# Altium integrated library LED.IntLib: 69 symbols
Pins are listed as number, name and electrical type; pins without a type are passive.

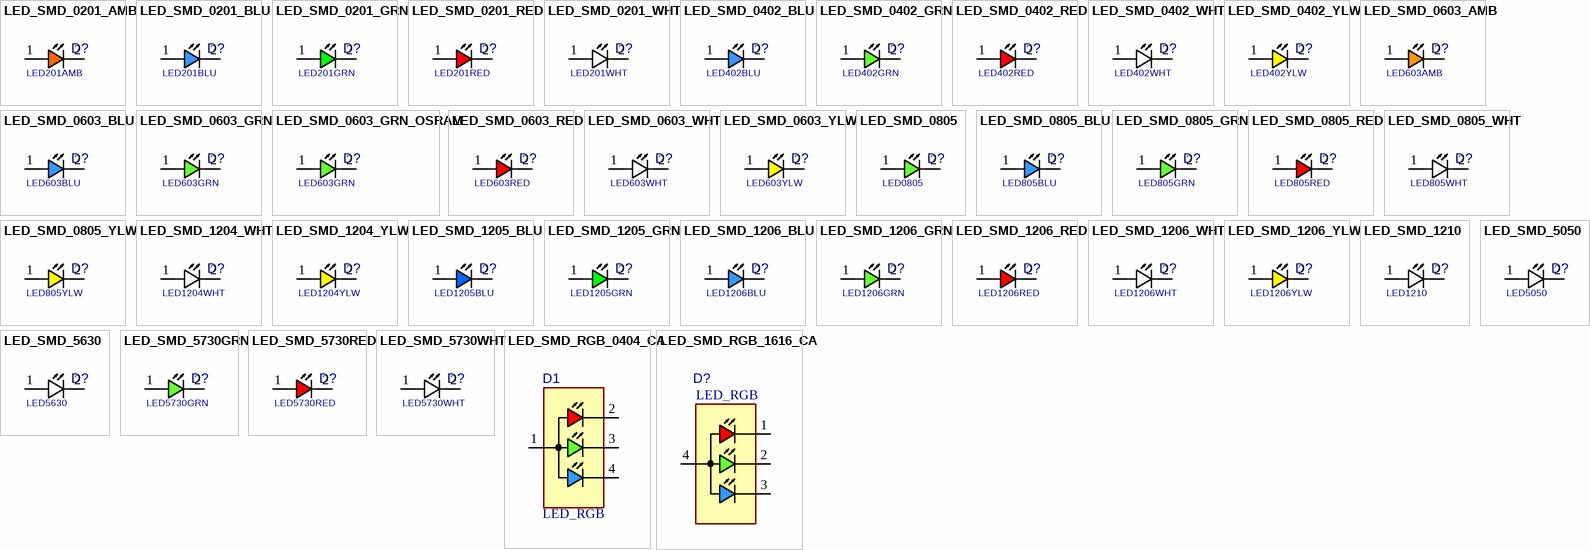
[diagram p0: symbols LED_SMD_0201_AMB to LED_SMD_RGB_1616_CA]

## LED_SMD_0201_AMB
designator D?, comment LED201AMB
LED, SMD, 0201, AMBER; PARAM: 20mA, 605nm, 140° Angle; MANF: Kingbright; DESC: DESCRIPTION; MANF_P#: APG0603SEC-TT; PARAM2: 2V, -40~85°C; ASSEMBLY: ASSEMBLY; PRICE: 0.5$; VALUE: LED201AMB
footprint LED0201AMB (LED SMD 0201, AMBER)
pins: 1 ANODE, 2 CATHODE

## LED_SMD_0201_BLU
designator D?, comment LED201BLU
LED, SMD, 0201, BLUE; PARAM: 5mA, 470nm, 110° Angle; MANF: Lumex; DESC: DESCRIPTION; MANF_P#: SML-LX0201USBC-TR; PARAM2: 2.6V, -40~85°C; ASSEMBLY: ASSEMBLY; PRICE: 0.3$; VALUE: LED201BLU
footprint LED0201BLU (LED SMD 0201, BLUE)
pins: 1 ANODE, 2 CATHODE

## LED_SMD_0201_GRN
designator D?, comment LED201GRN
LED, SMD, 0201, GREEN; PARAM: 20mA, 570nm, 140° Angle; MANF: Kingbright; DESC: DESCRIPTION; MANF_P#: APG0603CGC; PARAM2: 2V, -40~85°C; ASSEMBLY: ASSEMBLY; PRICE: 0.5$; VALUE: LED201GRN
footprint LED0201GRN (LED SMD 0201, GREEN)
pins: 1 ANODE, 2 CATHODE

## LED_SMD_0201_RED
designator D?, comment LED201RED
LED, SMD, 0201, RED; PARAM: 20mA, 625nm, 140° Angle; MANF: Kingbright; DESC: DESCRIPTION; MANF_P#: APG0603SEC-E-TT; PARAM2: 2V, -40~85°C; ASSEMBLY: ASSEMBLY; PRICE: 0.5$; VALUE: LED201RED
footprint LED0201RED (LED SMD 0201, RED)
pins: 1 ANODE, 2 CATHODE

## LED_SMD_0201_WHT
designator D?, comment LED201WHT
LED, SMD, 0201, WHITE; PARAM: 5mA, -nm, 110° Angle; MANF: Lumex; DESC: DESCRIPTION; MANF_P#: SML-LX0201NWD-TR; PARAM2: 2V, -40~85°C; ASSEMBLY: ASSEMBLY; PRICE: 0.4$; VALUE: LED201WHT
footprint LED0201WHT (LED SMD 0201, WHITE)
pins: 1 ANODE, 2 CATHODE

## LED_SMD_0402_BLU
designator D?, comment LED402BLU
LED, SMD, 0402, BLUE; PARAM: 20mA, 470nm, 120° Angle; MANF: Wurth Electronics; DESC: DESCRIPTION; MANF_P#: 150040BS73240; PARAM2: 3V; ASSEMBLY: ASSEMBLY; PRICE: 0.3$; VALUE: LED402BLU
footprint LED0402BLU (LED SMD 0402, BLUE)
pins: 1 ANODE, 2 CATHODE

## LED_SMD_0402_GRN
designator D?, comment LED402GRN
LED, SMD, 0402, GREEN; PARAM: 20mA; MANF: Wurth Electronics; DESC: DESCRIPTION; MANF_P#: 150040GS73240, HSMG-C280; PARAM2: 2.2V; ASSEMBLY: ASSEMBLY; PRICE: 0.3$; VALUE: LED402GRN
footprint LED0402GRN (LED SMD 0402, GREEN)
pins: 1 ANODE, 2 CATHODE

## LED_SMD_0402_RED
designator D?, comment LED402RED
LED, SMD, 0402, RED; PARAM: 20mA, 640nm; MANF: Wurth Electronics, VCC; DESC: DESCRIPTION; MANF_P#: 150040RS73240, VAOL-S4RP4; PARAM2: 1.8~2.5V; ASSEMBLY: ASSEMBLY; PRICE: 0.3$; VALUE: LED402RED
footprint LED0402RED (LED SMD 0402, RED)
pins: 1 ANODE, 2 CATHODE

## LED_SMD_0402_WHT
designator D?, comment LED402WHT
LED, SMD, 0402, WHITE; PARAM: 5mA; MANF: OSRAM; DESC: DESCRIPTION; MANF_P#: LW QH8G-Q2OO-3K5L-1; PARAM2: 2.85V; ASSEMBLY: ASSEMBLY; PRICE: PRICE; VALUE: LED402WHT
footprint LED0402WHT (LED SMD 0402, WHITE)
pins: 1 ANODE, 2 CATHODE

## LED_SMD_0402_YLW
designator D?, comment LED402YLW
LED, SMD, 0402, YELLOW; MANF: Wurth Electronics; DESC: DESCRIPTION; MANF_P#: 150040VS73240, 150040YS73240, HSMY-C280, VAOL-S4GT4; PARAM2: 2.2V; ASSEMBLY: ASSEMBLY; PRICE: 0.3$; VALUE: LED402YLW
footprint LED0402YLW (LED SMD 0402, YELLOW)
pins: 1 ANODE, 2 CATHODE

## LED_SMD_0603_AMB
designator D?, comment LED603AMB
LED, SMD, 0603, AMBER, 606nm; PARAM: 30mA; MANF: OSRAM; DESC: DESCRIPTION; MANF_P#: L29K-H2K1-24-Z; PARAM2: 1.8V; ASSEMBLY: ASSEMBLY; PRICE: PRICE; VALUE: LED603AMB
footprint LED0603AMB (LED SMD 0603, AMBER)
pins: 1 ANODE, 2 CATHODE

## LED_SMD_0603_BLU
designator D?, comment LED603BLU
LED, SMD, 0603, BLUE; PARAM: 30mA, 470nm, 120° Angle; DESC: DESCRIPTION; MANF_P#: MANF_PART#; PARAM2: 2.2~3V; MANF: MANF; ASSEMBLY: ASSEMBLY; PRICE: PRICE; VALUE: LED603BLU
footprint LED0603BLU (LED SMD 0603, BLUE)
pins: 1 ANODE, 2 CATHODE

## LED_SMD_0603_GRN
designator D?, comment LED603GRN
LED, SMD, 0603, GREEN; PARAM: 20mA; MANF: Kingbright; DESC: DESCRIPTION; MANF_P#: APT1608SGC; PARAM2: 2.2V; ASSEMBLY: ASSEMBLY; PRICE: 1: 0.14$, 100: 6.8$; VALUE: LED603GRN
footprint LED0603GRN (LED SMD 0603, GREEN)
pins: 1 ANODE, 2 CATHODE

## LED_SMD_0603_GRN_OSRAM
designator D?, comment LED603GRN
LED, SMD, 0603, GREEN; PARAM: 20mA; MANF: OSRAM; DESC: DESCRIPTION; MANF_P#: LG Q396-PS-35; PARAM2: 2.2V; ASSEMBLY: ASSEMBLY; PRICE: 0.36$; VALUE: LED603GRN
footprint LED0603GRN (LED SMD 0603, GREEN)
pins: 1 ANODE, 2 CATHODE

## LED_SMD_0603_RED
designator D?, comment LED603RED
LED, SMD, 0603, RED; PARAM: 30mA, 640nm; DESC: DESCRIPTION; MANF_P#: MANF_PART#; PARAM2: 1.8~2.5V; MANF: MANF; ASSEMBLY: ASSEMBLY; PRICE: PRICE; VALUE: LED603RED
footprint LED0603RED (LED SMD 0603, RED)
pins: 1 ANODE, 2 CATHODE

## LED_SMD_0603_WHT
designator D?, comment LED603WHT
LED, SMD, 0603, WHITE; PARAM: 30mA; DESC: DESCRIPTION; MANF_P#: MANF_PART#; PARAM2: 2.7~4V; MANF: MANF; ASSEMBLY: ASSEMBLY; PRICE: PRICE; VALUE: LED603WHT
footprint LED0603WHT (LED SMD 0603, WHITE)
pins: 1 ANODE, 2 CATHODE

## LED_SMD_0603_YLW
designator D?, comment LED603YLW
LED, SMD, 0603, YELLOW; DESC: DESCRIPTION; MANF_P#: MANF_PART#; PARAM2: 2.2V; MANF: MANF; ASSEMBLY: ASSEMBLY; PRICE: PRICE; VALUE: LED603YLW
footprint LED0603YLW (LED SMD 0603, YELLOW)
pins: 1 ANODE, 2 CATHODE

## LED_SMD_0805
designator D?, comment LED0805
LED, SMD, 0805; DESC: DESCRIPTION; MANF_P#: MANF_PART#; PARAM2: 2.2V; MANF: MANF; ASSEMBLY: ASSEMBLY; PRICE: PRICE; VALUE: LED0805
footprint LED0805 (0805LED)
footprint LED0805SIDE (Footprint not found)
pins: 1 ANODE, 2 CATHODE

## LED_SMD_0805_BLU
designator D?, comment LED805BLU
LED, SMD, 0805, BLUE; DESC: DESCRIPTION; MANF_P#: MANF_PART#; PARAM2: 2.2V; MANF: MANF; ASSEMBLY: ASSEMBLY; PRICE: 36t@Javan; VALUE: LED805BLU
footprint LED0805BLU (LED SMD 0805, BLUE)
pins: 1 ANODE, 2 CATHODE

## LED_SMD_0805_GRN
designator D?, comment LED805GRN
LED, SMD, 0805, GREEN; PARAM: 20mA; DESC: DESCRIPTION; PARAM2: 2.2V; MANF: -; ASSEMBLY: ASSEMBLY; PRICE: 36t@Javan; MANF_P#: -; VALUE: LED805GRN
footprint LED0805GRN (LED SMD 0805, GREEN)
pins: 1 ANODE, 2 CATHODE

## LED_SMD_0805_RED
designator D?, comment LED805RED
LED, SMD, 0805, RED; DESC: DESCRIPTION; MANF_P#: MANF_PART#; PARAM2: 2.2V; MANF: MANF; ASSEMBLY: ASSEMBLY; PRICE: 36t@Javan; VALUE: LED805RED
footprint LED0805RED (LED SMD 0805, RED)
pins: 1 ANODE, 2 CATHODE

## LED_SMD_0805_WHT
designator D?, comment LED805WHT
LED, SMD, 0805, WHITE; DESC: DESCRIPTION; MANF_P#: MANF_PART#; PARAM2: 2.2V; MANF: MANF; ASSEMBLY: ASSEMBLY; PRICE: 36t@Javan; VALUE: LED805WHT
footprint LED0805WHT (LED SMD 0805, WHITE)
pins: 1 ANODE, 2 CATHODE

## LED_SMD_0805_YLW
designator D?, comment LED805YLW
LED, SMD, 0805, YELLOW; DESC: DESCRIPTION; MANF_P#: MANF_PART#; PARAM2: 2.2V; MANF: MANF; ASSEMBLY: ASSEMBLY; PRICE: 36t@Javan; VALUE: LED805YLW
footprint LED0805YLW (LED SMD 0805, YELLOW)
pins: 1 ANODE, 2 CATHODE

## LED_SMD_1204_WHT
designator D?, comment LED1204WHT
LED, SMD, 1204, WHITE; MANF: Inolux; DESC: DESCRIPTION; MANF_P#: IN-S124ARUW; PARAM2: 2.2V; ASSEMBLY: ASSEMBLY; PRICE: 0.4$; VALUE: LED1204WHT
footprint LED1205 (LED, 1205, YELLOW, 3.2X1.2X1.1mm)
pins: 1 ANODE, 2 CATHODE

## LED_SMD_1204_YLW
designator D?, comment LED1204YLW
LED, SMD, 1204, YELLOW; MANF: CHINA; DESC: DESCRIPTION; MANF_P#: MANF_PART#; PARAM2: 2.2V; ASSEMBLY: ASSEMBLY; PRICE: 36t@Javan; VALUE: LED1204YLW
footprint LED1204YLW (LED, 1204, YELLOW, 3.0X1.0X1.9mm)
pins: 1 ANODE, 2 CATHODE

## LED_SMD_1205_BLU
designator D?, comment LED1205BLU
LED, SMD, 1205, BLUE; MANF: WE; DESC: DESCRIPTION; MANF_P#: 156125BS57000; PARAM2: 2.5V; ASSEMBLY: ASSEMBLY; PRICE: 0.4$; VALUE: LED1205BLU
footprint LED1205 (LED, 1205, YELLOW, 3.2X1.2X1.1mm)
pins: 1 ANODE, 2 CATHODE

## LED_SMD_1205_GRN
designator D?, comment LED1205GRN
LED, SMD, 1205, GREEN; MANF: WE; DESC: DESCRIPTION; MANF_P#: 156125GS57000; PARAM2: 2.5V; ASSEMBLY: ASSEMBLY; PRICE: 0.4$; VALUE: LED1205GRN
footprint LED1205 (LED, 1205, YELLOW, 3.2X1.2X1.1mm)
pins: 1 ANODE, 2 CATHODE

## LED_SMD_1206_BLU
designator D?, comment LED1206BLU
LED, SMD, 1206, BLUE; DESC: DESCRIPTION; MANF_P#: MANF_PART#; PARAM2: 2.2V; MANF: MANF; ASSEMBLY: ASSEMBLY; PRICE: 36t@Javan; VALUE: LED1206BLU
footprint LED1206BLU (LED, 1206, BLUE)
pins: 1 ANODE, 2 CATHODE

## LED_SMD_1206_GRN
designator D?, comment LED1206GRN
LED, SMD, 1206, GREEN; PARAM: 20mA; DESC: DESCRIPTION; PARAM2: 2.2V; MANF: -; ASSEMBLY: ASSEMBLY; PRICE: 36t@Javan; MANF_P#: -; VALUE: LED1206GRN
footprint LED1206GRN (LED, 1206, GREEN)
pins: 1 ANODE, 2 CATHODE

## LED_SMD_1206_RED
designator D?, comment LED1206RED
LED, SMD, 1206, RED; DESC: DESCRIPTION; MANF_P#: MANF_PART#; PARAM2: 2.2V; MANF: MANF; ASSEMBLY: ASSEMBLY; PRICE: 36t@Javan; VALUE: LED1206RED
footprint LED1206RED (LED, 1206, RED)
pins: 1 ANODE, 2 CATHODE

## LED_SMD_1206_WHT
designator D?, comment LED1206WHT
LED, SMD, 1206, WHITE; DESC: DESCRIPTION; MANF_P#: MANF_PART#; PARAM2: 2.2V; MANF: MANF; ASSEMBLY: ASSEMBLY; PRICE: 36t@Javan; VALUE: LED1206WHT
footprint LED1206WHT (LED, 1206, WHITE)
pins: 1 ANODE, 2 CATHODE

## LED_SMD_1206_YLW
designator D?, comment LED1206YLW
LED, SMD, 1206, YELLOW; DESC: DESCRIPTION; MANF_P#: MANF_PART#; PARAM2: 2.2V; MANF: MANF; ASSEMBLY: ASSEMBLY; PRICE: 36t@Javan; VALUE: LED1206YLW
footprint LED1206YLW (LED, 1206, YELLOW)
pins: 1 ANODE, 2 CATHODE

## LED_SMD_1210
designator D?, comment LED1210
LED, SMD, 1210; DESC: DESCRIPTION; MANF_P#: MANF_PART#; PARAM2: 2.2V; MANF: MANF; ASSEMBLY: ASSEMBLY; PRICE: PRICE; VALUE: LED1210
footprint LED1210
pins: 1 ANODE, 2 CATHODE

## LED_SMD_5050
designator D?, comment LED5050
LED, SMD, 5050; DESC: DESCRIPTION; MANF_P#: MANF_PART#; PARAM2: 2.2V; MANF: MANF; ASSEMBLY: ASSEMBLY; PRICE: PRICE; VALUE: LED5050
footprint LED5050 (LED 5mmX5mm)
pins: 1 ANODE, 2 CATHODE

## LED_SMD_5630
designator D?, comment LED5630
LED, SMD, 5630; DESC: DESCRIPTION; MANF_P#: MANF_PART#; PARAM2: 2.2V; MANF: MANF; ASSEMBLY: ASSEMBLY; PRICE: PRICE; VALUE: LED5630
footprint LED5630 (LED 5.6mmX3mm)
pins: 1 ANODE, 2 CATHODE

## LED_SMD_5730GRN
designator D?, comment LED5730GRN
LED, SMD, 5730 GREEN; MANF: CHINA; DESC: DESCRIPTION; MANF_P#: GBG-5730TGKT; PARAM2: 2.2V; ASSEMBLY: ASSEMBLY; PRICE: 50@Javan; VALUE: LED5730GRN
footprint LED5730 (LED 5.7mmX3mm)
pins: 1 ANODE, 2 CATHODE

## LED_SMD_5730RED
designator D?, comment LED5730RED
LED, SMD, 5730 RED; MANF: CHINA; DESC: DESCRIPTION; PARAM2: 2.2V; ASSEMBLY: ASSEMBLY; PRICE: 50@Javan; VALUE: LED5730RED
footprint LED5730 (LED 5.7mmX3mm)
pins: 1 ANODE, 2 CATHODE

## LED_SMD_5730WHT
designator D?, comment LED5730WHT
LED, SMD, 5730 WHITE; DESC: DESCRIPTION; MANF_P#: MANF_PART#; PARAM2: 2.2V; MANF: MANF; ASSEMBLY: ASSEMBLY; PRICE: 50t@Javan; VALUE: LED5730WHT
footprint LED5730 (LED 5.7mmX3mm)
pins: 1 ANODE, 2 CATHODE

## LED_SMD_RGB_0404_CA
designator D1, comment LED_RGB
LED, SMD, RGB COMMON ANODE; MANF_P#: AL-S0404RGBB/45-09; MANF: Lite-On; DESC: DESCRIPTION; MANF_P#2: IN-B101FCH; MANF_P#3: SML-LX0404SIUPGUSB; MANF_P#4: HSMF-C116; ASSEMBLY: ASSEMBLY; PRICE: PRICE; VALUE: LED_RGB
footprint LED0404RGB (LED, RGB, 1.0x1.0mm, SML-LX0404, 1010, 0404)
pins: 1 ANODE, 2 RED, 3 GREEN, 4 BLUE

## LED_SMD_RGB_1616_CA
designator D?, comment LED_RGB
LED, SMD, RGB COMMON ANODE; MANF_P#: LTST-C19HE1WT; MANF: Lite-On; DESC: DESCRIPTION; ASSEMBLY: ASSEMBLY; PRICE: PRICE; VALUE: LED_RGB
footprint LED0606RGB (1.6x1.6mm  RGB LED LTST-C19HE1WT)
pins: 1 RED, 2 GREEN, 3 BLUE, 4 ANODE

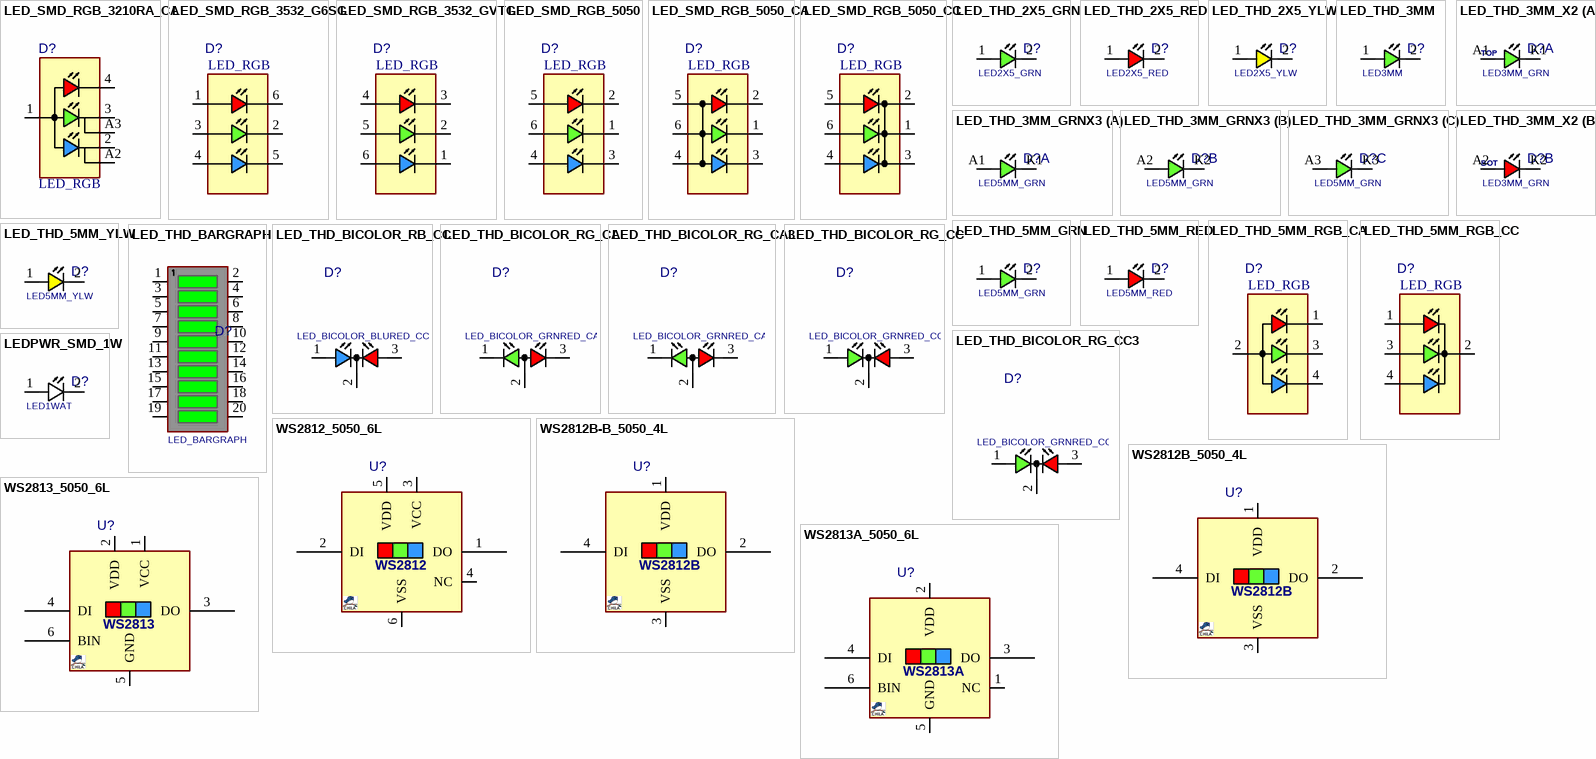
[diagram p1: symbols LED_SMD_RGB_3210RA_CA to WS2813A_5050_6L]

## LED_SMD_RGB_3210RA_CA
designator D?, comment LED_RGB
LED, SMD, RGB COMMON ANODE; MANF_P#: LTST-S310F2KT, HQ12-2353RGBC; MANF: Lite-On, HARVATEK; DESC: DESCRIPTION; ASSEMBLY: ASSEMBLY; PRICE: 0.6$; VALUE: LED_RGB
footprint LED3210RGB_R (LED 3.2mmX1.0mm, Right Angle)
footprint LED3210RGB (LED 3.2mmX1.0mm)
pins: 1 ANODE, 2 BLUE, 3 GREEN, 4 RED, A2 BLUE, A3 GREEN

## LED_SMD_RGB_3532_G6SG
designator D?, comment LED_RGB
LED, SMD, RGB G6SG; MANF_P#: LRTB G6SG-U4AA-1+V2A6-25+S1T; MANF: OSRAM; PARAM: 50mA, 120°; DESC: DESCRIPTION; PARAM2: RED1.8V, GRN2.9V, BLU2.9V; ASSEMBLY: ASSEMBLY; PRICE: PRICE; VALUE: LED_RGB
footprint LED3532RGB (LED 3.5mmX3.2mm, LRTB G6SG PLLC6)
pins: 1 A1, 2 C2, 3 A2, 4 A3, 5 C3, 6 C1

## LED_SMD_RGB_3532_GVTG
designator D?, comment LED_RGB
LED, SMD, RGB GVTG; MANF_P#: LRTB GVTG-U5V5-1+A5B5-29+S9T; MANF: OSRAM; PARAM: 50mA, 120°; DESC: DESCRIPTION; PARAM2: RED1.8V, GRN2.9V, BLU2.9V; ASSEMBLY: ASSEMBLY; PRICE: PRICE; VALUE: LED_RGB
footprint LED3532RGB (LED 3.5mmX3.2mm, LRTB G6SG PLLC6)
pins: 1 C3, 2 C2, 3 C1, 4 A1, 5 A2, 6 A3

## LED_SMD_RGB_5050
designator D?, comment LED_RGB
LED, SMD, RGB 5050; PARAM: 30mA, 120°; DESC: DESCRIPTION; PARAM2: RED2V, GRN3.2V, BLU3.2V; MANF_P#: -; MANF: -; ASSEMBLY: ASSEMBLY; PRICE: 80t@JAVAN; VALUE: LED_RGB
footprint LED5050RGB_6 (LED 5mmX5mm, PLLC6)
pins: 1 RED, 2 GRN, 3 BLU, 4 AB, 5 AG, 6 AR

## LED_SMD_RGB_5050_CA
designator D?, comment LED_RGB
LED, SMD, RGB COMMON ANODE; PARAM: 30mA, 120°; DESC: DESCRIPTION; PARAM2: RED2V, GRN3.2V, BLU3.2V; MANF_P#: -; MANF: -; ASSEMBLY: ASSEMBLY; PRICE: 80t@JAVAN; VALUE: LED_RGB
footprint LED5050RGB_6 (LED 5mmX5mm, PLLC6)
pins: 1 RED, 2 GRN, 3 BLU, 4 AB, 5 AG, 6 AR

## LED_SMD_RGB_5050_CC
designator D?, comment LED_RGB
LED, SMD, RGB COMMON CATHODE; PARAM: 30mA, 120°; DESC: DESCRIPTION; PARAM2: RED2V, GRN3.2V, BLU3.2V; MANF_P#: -; MANF: -; ASSEMBLY: ASSEMBLY; PRICE: 95t@JAVAN; VALUE: LED_RGB
footprint LED5050RGB_6 (LED 5mmX5mm, PLLC6)
pins: 1 RED, 2 GRN, 3 BLU, 4 AB, 5 AG, 6 AR

## LED_THD_2X5_GRN
designator D?, comment LED2X5_GRN
LED, THD, 2X5MM, GREEN; DESC: DESCRIPTION; MANF_P#: MANF_PART#; PARAM2: 2.2V; MANF: MANF; ASSEMBLY: ASSEMBLY; PRICE: PRICE; VALUE: LED2X5_GRN
footprint LED2X5_GRN (LED THD, 2X5mm)
pins: 1 ANODE, 2 CATHODE

## LED_THD_2X5_RED
designator D?, comment LED2X5_RED
LED, THD, 2X5MM, RED; DESC: DESCRIPTION; MANF_P#: MANF_PART#; PARAM2: 1.8V; MANF: MANF; ASSEMBLY: ASSEMBLY; PRICE: PRICE; VALUE: LED2X5_RED
footprint LED2X5_RED (LED THD, 2X5mm)
pins: 1 ANODE, 2 CATHODE

## LED_THD_2X5_YLW
designator D?, comment LED2X5_YLW
LED, THD, 2X5MM, YELLOW; DESC: DESCRIPTION; MANF_P#: MANF_PART#; PARAM2: 2.2V; MANF: MANF; ASSEMBLY: ASSEMBLY; PRICE: PRICE; VALUE: LED2X5_YLW
footprint LED2X5_YLW (LED THD, 2X5mm)
pins: 1 ANODE, 2 CATHODE

## LED_THD_3MM
designator D?, comment LED3MM
LED, THD, 3MM, GREEN; DESC: DESCRIPTION; MANF_P#: MANF_PART#; PARAM2: 2.2V; MANF: MANF; ASSEMBLY: ASSEMBLY; PRICE: PRICE; VALUE: LED3MM
footprint LED3MM (LED THD 3MM)
pins: 1 ANODE, 2 CATHODE

## LED_THD_3MM_GRNX3
designator D?, comment LED5MM_GRN
LED, THD, 5MM, GREEN TRI LEVEL; DESC: DESCRIPTION; MANF_P#: MANF_PART#; PARAM2: 2.2V; MANF: MANF; ASSEMBLY: ASSEMBLY; PRICE: PRICE; VALUE: LED5MM_GRN
footprint LED3MMRX3 (Footprint not found)
part A pins: A1 ANODE, K1 CATHODE
part B pins: A2 ANODE, K2 CATHODE
part C pins: A3 ANODE, K3 CATHODE

## LED_THD_3MM_X2
designator D?, comment LED3MM_GRN
LED, THD, 3MM, DUAL LEVEL; MANF: Dialight; DESC: DESCRIPTION; MANF_P#: 553-0121F; PARAM2: 2.2V; ASSEMBLY: ASSEMBLY; PRICE: PRICE; VALUE: LED3MM_GRN
footprint LED3MMRX2 (Footprint not found)
part A pins: A1 ANODE, K1 CATHODE
part B pins: A2 ANODE, K2 CATHODE
part A text: TOP
part B text: BOT

## LED_THD_5MM_GRN
designator D?, comment LED5MM_GRN
LED, THD, 5MM, GREEN; DESC: DESCRIPTION; MANF_P#: MANF_PART#; PARAM2: 2.2V; MANF: MANF; ASSEMBLY: ASSEMBLY; PRICE: PRICE; VALUE: LED5MM_GRN
footprint LED5MM_GRN (LED 5MM THROUGH HOLE GREEN)
pins: 1 ANODE, 2 CATHODE

## LED_THD_5MM_RED
designator D?, comment LED5MM_RED
LED, THD, 5MM, RED; DESC: DESCRIPTION; MANF_P#: MANF_PART#; PARAM2: 2.2V; MANF: MANF; ASSEMBLY: ASSEMBLY; PRICE: PRICE; VALUE: LED5MM_RED
footprint LED5MM_RED (LED 5MM THROUGH HOLE RED)
pins: 1 ANODE, 2 CATHODE

## LED_THD_5MM_RGB_CA
designator D?, comment LED_RGB
LED, THD, 5MM, RGB COMMON CATHODE; MANF_P#: YSL-R596CR3G4B5C-C10; MANF: CHINA YOUNG; DESC: DESCRIPTION; ASSEMBLY: ASSEMBLY; PRICE: PRICE; VALUE: LED_RGB
footprint LED5RGB (LED THD 5MM RGB)
pins: 1 RED, 2 C, 3 GRN, 4 BLU

## LED_THD_5MM_RGB_CC
designator D?, comment LED_RGB
LED, THD, 5MM, RGB COMMON CATHODE; MANF_P#: YSL-R596CR3G4B5C-C10; MANF: CHINA YOUNG; DESC: DESCRIPTION; ASSEMBLY: ASSEMBLY; PRICE: PRICE; VALUE: LED_RGB
footprint LED5RGB (LED THD 5MM RGB)
pins: 1 RED, 2 C, 3 GRN, 4 BLU

## LED_THD_5MM_YLW
designator D?, comment LED5MM_YLW
LED, THD, 5MM, YELLOW; DESC: DESCRIPTION; MANF_P#: MANF_PART#; PARAM2: 2.2V; MANF: MANF; ASSEMBLY: ASSEMBLY; PRICE: PRICE; VALUE: LED5MM_YLW
footprint LED5MM_YLW (LED THD 5MM YELLOW)
pins: 1 ANODE, 2 CATHODE

## LED_THD_BARGRAPH
designator D?, comment LED_BARGRAPH
LED, THD, BARGRAPH; DESC: DESCRIPTION; MANF_P#: CLSRD10A; PARAM2: 2.2V; MANF: MANF; ASSEMBLY: ASSEMBLY; PRICE: PRICE; VALUE: LED_BARGRAPH
footprint LEDBARX10 (LED BAR GRAPH, pitch: 2.54mm,  CLSRD10A SSA-LXB10HW-GF)
pins: 1 A1, 2 B1, 3 A2, 4 B2, 5 A3, 6 B3, 7 A4, 8 B4, 9 A5, 10 B5, 11 A6, 12 B6, 13 A7, 14 B7, 15 A8, 16 B8, 17 A9, 18 B9, 19 A10, 20 B10

## LED_THD_BICOLOR_RB_CC
designator D?, comment LED_BICOLOR_BLURED_CC
LED, THD, 5MM, BICOLOR CC BLURED; MANF_P#: R304Y31BC; DESC: DESCRIPTION; MANF: MANF; ASSEMBLY: ASSEMBLY; PRICE: PRICE; VALUE: LED_BICOLOR_BLURED_CC
footprint LED5BI (LED THD 5MM BICOLOR)
pins: 1 RED, 2 C, 3 GRN

## LED_THD_BICOLOR_RG_CA
designator D?, comment LED_BICOLOR_GRNRED_CA
LED, THD, 5MM, BICOLOR CA GRNRED; MANF_P#: MANF_PART#; DESC: DESCRIPTION; MANF: MANF; ASSEMBLY: ASSEMBLY; PRICE: PRICE; VALUE: LED_BICOLOR_GRNRED_CA
footprint LED5BI (LED THD 5MM BICOLOR)
pins: 1 RED, 2 C, 3 GRN

## LED_THD_BICOLOR_RG_CA3
designator D?, comment LED_BICOLOR_GRNRED_CA
LED, THD, 3MM, BICOLOR CA GRNRED; MANF_P#: MANF_PART#; DESC: DESCRIPTION; MANF: MANF; ASSEMBLY: ASSEMBLY; PRICE: PRICE; VALUE: LED_BICOLOR_GRNRED_CA
footprint LED3BI (LED THD 5MM BICOLOR)
pins: 1 RED, 2 C, 3 GRN

## LED_THD_BICOLOR_RG_CC
designator D?, comment LED_BICOLOR_GRNRED_CC
LED, THD, 5MM, BICOLOR CC GRNRED; MANF_P#: CXY-5MM-MRG1; DESC: DESCRIPTION; MANF: MANF; ASSEMBLY: ASSEMBLY; PRICE: PRICE; VALUE: LED_BICOLOR_GRNRED_CC
footprint LED5BI (LED THD 5MM BICOLOR)
pins: 1 RED, 2 C, 3 GRN

## LED_THD_BICOLOR_RG_CC3
designator D?, comment LED_BICOLOR_GRNRED_CC
LED, THD, 3MM, BICOLOR CC GRNRED; MANF_P#: WP3VSURKCGKW; MANF: kingbright; DESC: DESCRIPTION; ASSEMBLY: ASSEMBLY; PRICE: PRICE; VALUE: LED_BICOLOR_GRNRED_CC
footprint LED3BI (LED THD 5MM BICOLOR)
pins: 1 RED, 2 C, 3 GRN

## LEDPWR_SMD_1W
designator D?, comment LED1WAT
LED, POWER,SMD, 1WATT; DESC: DESCRIPTION; MANF_P#: MANF_PART#; PARAM2: 3V; MANF: MANF; ASSEMBLY: ASSEMBLY; PRICE: PRICE; VALUE: LED1WAT
footprint LED1WAT (LED, 1WATT)
pins: 1 ANODE, 2 CATHODE

## WS2812_5050_6L
designator U?, comment WS2812  (value not drawn)
LED, SMD, RGB with WS2812 6Lead; MANF: Worldsemi; PARAM: 18mA, 400Hz/s, 800Kbps; DESC: DESCRIPTION; PARAM2: 5v, -25~80oC; MANF_P#: WS2812; ASSEMBLY: ASSEMBLY; PRICE: -; VALUE: WS2812
footprint LED5050RGB_6 (LED 5mmX5mm, PLLC6)
pins: 1 DO, 2 DI, 3 VCC, 4 NC, 5 VDD, 6 VSS

## WS2812B-B_5050_4L
designator U?, comment WS2812B-B  (value not drawn)
LED, SMD, RGB with WS2812 4Lead; MANF: Worldsemi; PARAM: 18mA, 2KHz/s, 800Kbps; DESC: DESCRIPTION; PARAM2: 3.7~5.3v, -25~80oC; MANF_P#: WS2812B-B; ASSEMBLY: ASSEMBLY; PRICE: -; VALUE: WS2812B-B
footprint LED5050RGB_4 (LED 5mmX5mm, PLLC6)
pins: 1 VDD, 2 DO, 3 VSS, 4 DI
text: WS2812B

## WS2812B_5050_4L
designator U?, comment WS2812B  (value not drawn)
LED, SMD, RGB with WS2812 4Lead; MANF: Worldsemi; PARAM: 18mA, 400Hz/s, 800Kbps; DESC: DESCRIPTION; PARAM2: 3.5~5.3v, -25~80oC; MANF_P#: WS2812B; ASSEMBLY: ASSEMBLY; PRICE: -; VALUE: WS2812B
footprint LED5050RGB_4 (LED 5mmX5mm, PLLC6)
pins: 1 VDD, 2 DO, 3 VSS, 4 DI

## WS2813_5050_6L
designator U?, comment WS2813  (value not drawn)
LED, SMD, RGB with WS2813 6Lead; MANF: Worldsemi; PARAM: 18mA, 2kHz/s, 800Kbps; DESC: DESCRIPTION; PARAM2: 3.5~5.3v, -25~60oC; MANF_P#: WS2813; ASSEMBLY: ASSEMBLY; PRICE: -; VALUE: WS2813
footprint LED5050RGB_6 (LED 5mmX5mm, PLLC6)
pins: 1 VCC, 2 VDD, 3 DO, 4 DI, 5 GND, 6 BIN

## WS2813A_5050_6L
designator U?, comment WS2813A  (value not drawn)
LED, SMD, RGB with WS2813 6Lead; MANF: Worldsemi; PARAM: 18mA, 2kHz/s, 800Kbps; DESC: DESCRIPTION; PARAM2: 3.5~5.3v, -25~60oC; MANF_P#: WS2813A; ASSEMBLY: ASSEMBLY; PRICE: -; VALUE: WS2813A
footprint LED5050RGB_6 (LED 5mmX5mm, PLLC6)
pins: 1 NC, 2 VDD, 3 DO, 4 DI, 5 GND, 6 BIN